# Altium schematic symbol library PCB_ANT_DIFF.SchLib: 1 symbol
Pins are listed as number, name and electrical type; pins without a type are passive.

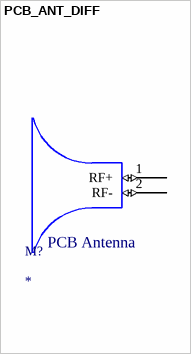
[diagram p0: symbol PCB_ANT_DIFF]

## PCB_ANT_DIFF
designator M?
pins: 1 RF+ (io), 2 RF- (io)
text: PCB Antenna